# EAGLE library part YM3014B (library Yamaha-OPL2)
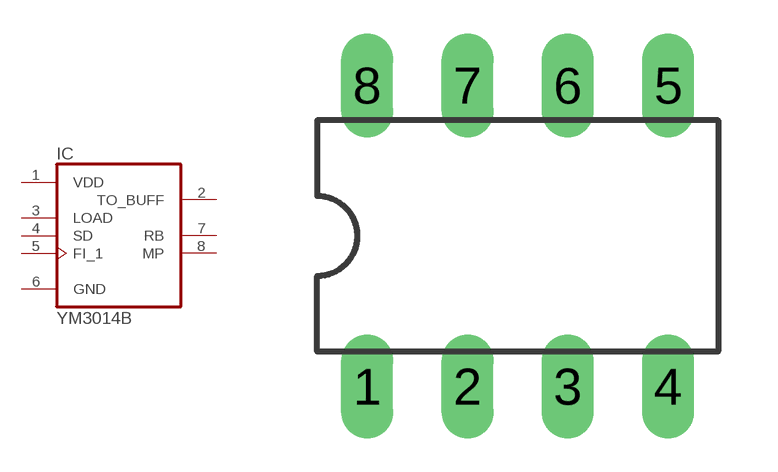
[diagram p1: symbol with the pads of DIL08; footprint DIL08]

Designator prefix IC

## YM3014B  [DIL08]
1  VDD  sup
2  TO_BUFF
3  LOAD  out
4  SD
5  FI_1  in
6  GND  pwr
7  RB  in
8  MP  out

## Footprint DIL08 (pad centres in mm)
Dual In Line Package
drill 0.813 long: 1 -3.81,-3.81; 2 -1.27,-3.81; 3 1.27,-3.81; 4 3.81,-3.81; 5 3.81,3.81; 6 1.27,3.81; 7 -1.27,3.81; 8 -3.81,3.81